# EAGLE library part 2X10_ROUND (library pins_1.27mm_pitch)
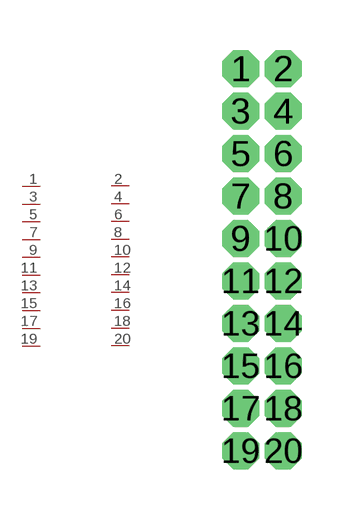
[diagram p22: symbol with the pads of 2X10_ROUND; footprint 2X10_ROUND]

Designator prefix -

## 2X10_ROUND  [2X10_ROUND]
1  P$1
2  P$2
3  P$3
4  P$4
5  P$5
6  P$6
7  P$7
8  P$8
9  P$9
10  P$10
11  P$11
12  P$12
13  P$13
14  P$14
15  P$15
16  P$16
17  P$17
18  P$18
19  P$19
20  P$20

## Footprint 2X10_ROUND (pad centres in mm)
drill 0.6 pad 0.85 octagon: 1 0,6.35; 2 1.27,6.35; 3 0,5.08; 4 1.27,5.08; 5 0,3.81; 6 1.27,3.81; 7 0,2.54; 8 1.27,2.54; 9 0,1.27; 10 1.27,1.27; 11 0,0; 12 1.27,0; 13 0,-1.27; 14 1.27,-1.27; 15 0,-2.54; 16 1.27,-2.54; 17 0,-3.81; 18 1.27,-3.81; 19 0,-5.08; 20 1.27,-5.08